# Altium schematic symbol library SamacSys.SchLib: 20 symbols
Pins are listed as number, name and electrical type; pins without a type are passive.

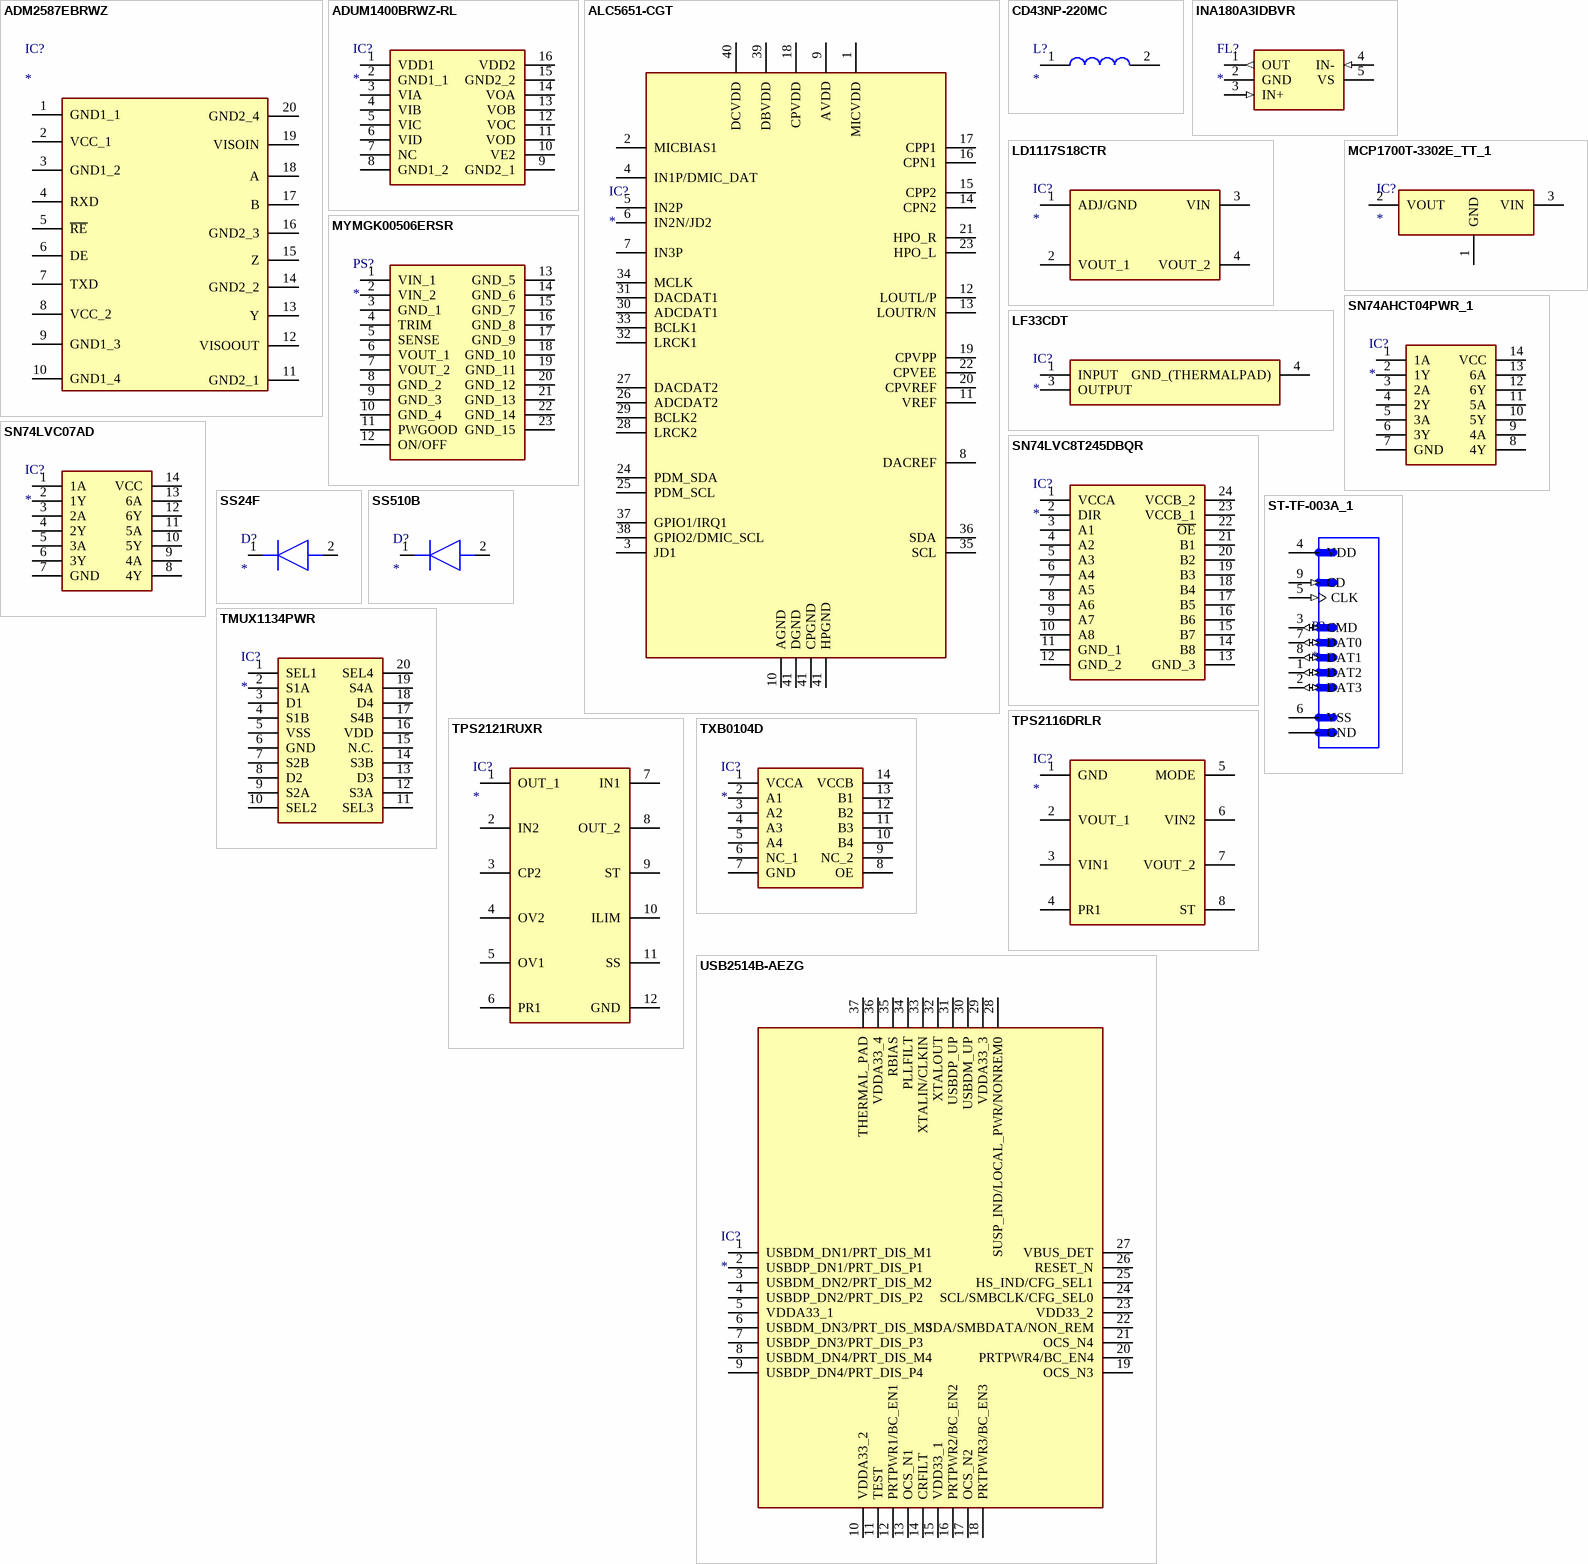
[diagram p0: symbols ADM2587EBRWZ to USB2514B-AEZG]

## ADM2587EBRWZ
designator IC?
Integrated Circuit; Manufacturer_Name: Analog Devices; Manufacturer_Part_Number: ADM2587EBRWZ; Datasheet Link: http://www.analog.com/static/imported-files/data_sheets/ADM2582E_2587E.pdf; Height: 2.65mm; Mouser Part Number: 584-ADM2587EBRWZ; Mouser Price/Stock: https://www.mouser.co.uk/ProductDetail/Analog-Devices/ADM2587EBRWZ?qs=BpaRKvA4VqEzsBsna6VmlA%3D%3D; Arrow Part Number: ADM2587EBRWZ; Arrow Price/Stock: https://www.arrow.com/en/products/adm2587ebrwz/analog-devices?region=nac
footprint SOIC127P1032X265-20N
pins: 1 GND1_1, 2 VCC_1, 3 GND1_2, 4 RXD, 5 ~{RE}, 6 DE, 7 TXD, 8 VCC_2, 9 GND1_3, 10 GND1_4, 11 GND2_1, 12 VISOOUT, 13 Y, 14 GND2_2, 15 Z, 16 GND2_3, 17 B, 18 A, 19 VISOIN, 20 GND2_4

## ADUM1400BRWZ-RL
designator IC?
Integrated Circuit; Manufacturer_Name: Analog Devices; Manufacturer_Part_Number: ADUM1400BRWZ-RL; Datasheet Link: https://www.analog.com/ADUM1400/datasheet; Height: 2.65mm; Mouser Part Number: 584-ADUM1400BRWZ-R; Mouser Price/Stock: https://www.mouser.co.uk/ProductDetail/Analog-Devices/ADUM1400BRWZ-RL?qs=WIvQP4zGanh%2FP3K3z%252BgM%252Bw%3D%3D; Arrow Part Number: ADUM1400BRWZ-RL; Arrow Price/Stock: https://www.arrow.com/en/products/adum1400brwz-rl/analog-devices?region=nac
footprint SOIC127P1032X265-16N
pins: 1 VDD1, 2 GND1_1, 3 VIA, 4 VIB, 5 VIC, 6 VID, 7 NC, 8 GND1_2, 9 GND2_1, 10 VE2, 11 VOD, 12 VOC, 13 VOB, 14 VOA, 15 GND2_2, 16 VDD2

## ALC5651-CGT
designator IC?
Integrated Circuit; Manufacturer_Name: Realtek; Manufacturer_Part_Number: ALC5651-CGT; Datasheet Link: https://datasheet.lcsc.com/szlcsc/2001151131_Realtek-Semicon-ALC5651-CGT_C474323.pdf; Height: 0.9mm
footprint QFN40P500X500X90-41N-D
pins: 1 MICVDD, 2 MICBIAS1, 3 JD1, 4 IN1P/DMIC_DAT, 5 IN2P, 6 IN2N/JD2, 7 IN3P, 8 DACREF, 9 AVDD, 10 AGND, 11 VREF, 12 LOUTL/P, 13 LOUTR/N, 14 CPN2, 15 CPP2, 16 CPN1, 17 CPP1, 18 CPVDD, 19 CPVPP, 20 CPVREF, 21 HPO_R, 22 CPVEE, 23 HPO_L, 24 PDM_SDA, 25 PDM_SCL, 26 ADCDAT2, 27 DACDAT2, 28 LRCK2, 29 BCLK2, 30 ADCDAT1, 31 DACDAT1, 32 LRCK1, 33 BCLK1, 34 MCLK, 35 SCL, 36 SDA, 37 GPIO1/IRQ1, 38 GPIO2/DMIC_SCL, 39 DBVDD, 40 DCVDD, 41 HPGND, 41 CPGND, 41 DGND

## CD43NP-220MC
designator L?
Inductor; Manufacturer_Name: Sumida; Manufacturer_Part_Number: CD43NP-220MC; Datasheet Link: https://products.sumida.com/products/pdf/CD43.pdf; Height: 3.5mm; Mouser Part Number: 851-CD43NP-220MC; Mouser Price/Stock: https://www.mouser.co.uk/ProductDetail/Sumida/CD43NP-220MC?qs=ttApTud31JYLH5yY3TuJPg%3D%3D; Arrow Part Number: CD43NP-220MC; Arrow Price/Stock: https://www.arrow.com/en/products/cd43np-220mc/sumida?region=nac
footprint CD43NP220MC
pins: 1, 2

## INA180A3IDBVR
designator FL?
Filter; Manufacturer_Name: Texas Instruments; Manufacturer_Part_Number: INA180A3IDBVR; Datasheet Link: http://www.ti.com/lit/gpn/INA180; Height: 1.45mm; Mouser Part Number: 595-INA180A3IDBVR; Mouser Price/Stock: https://www.mouser.co.uk/ProductDetail/Texas-Instruments/INA180A3IDBVR?qs=5aG0NVq1C4xT61h4EgbaIA%3D%3D; Arrow Part Number: INA180A3IDBVR; Arrow Price/Stock: https://www.arrow.com/en/products/ina180a3idbvr/texas-instruments?region=nac
footprint SOT95P280X145-5N
pins: 1 OUT (out), 2 GND (power), 3 IN+ (in), 4 IN- (in), 5 VS (power)

## LD1117S18CTR
designator IC?
Integrated Circuit; Manufacturer_Name: STMicroelectronics; Manufacturer_Part_Number: LD1117S18CTR; Datasheet Link: http://www.st.com/st-web-ui/static/active/en/resource/technical/document/datasheet/CD00000544.pdf; Height: 1.8mm; Mouser Part Number: 511-LD1117S18CTR; Mouser Price/Stock: https://www.mouser.co.uk/ProductDetail/STMicroelectronics/LD1117S18CTR?qs=qolwYojYp3Sa3BPkKnJupg%3D%3D; Arrow Part Number: LD1117S18CTR; Arrow Price/Stock: https://www.arrow.com/en/products/ld1117s18ctr/stmicroelectronics?region=nac
footprint SOT230P700X180-4N
pins: 1 ADJ/GND, 2 VOUT_1, 3 VIN, 4 VOUT_2

## LF33CDT
designator IC?
Integrated Circuit; Manufacturer_Name: STMicroelectronics; Manufacturer_Part_Number: LF33CDT; Datasheet Link: http://www.st.com/web/en/resource/technical/document/datasheet/CD00000546.pdf; Height: 2.4mm; Mouser Part Number: 511-LF33CDT; Mouser Price/Stock: https://www.mouser.co.uk/ProductDetail/STMicroelectronics/LF33CDT?qs=tZUCD5p2VWo1sRQNOfAbrg%3D%3D
footprint TO228P972X240-3N
pins: 1 INPUT (power), 3 OUTPUT (power), 4 GND_(THERMALPAD) (power)

## MCP1700T-3302E_TT_1
designator IC?
Integrated Circuit; Manufacturer_Name: Microchip; Manufacturer_Part_Number: MCP1700T-3302E/TT; Datasheet Link: https://datasheet.datasheetarchive.com/originals/distributors/SFDatasheet-4/sf-00090030.pdf; Height: 1.12mm; Mouser Part Number: 579-MCP1700T3302E/TT; Mouser Price/Stock: https://www.mouser.co.uk/ProductDetail/Microchip-Technology/MCP1700T-3302E-TT?qs=fM4xO01eazPmCNDrdHEdaw%3D%3D; Arrow Part Number: MCP1700T-3302E/TT; Arrow Price/Stock: https://www.arrow.com/en/products/mcp1700t-3302ett/microchip-technology?region=europe
footprint SOT95P237X112-3N
pins: 1 GND, 2 VOUT, 3 VIN

## MYMGK00506ERSR
designator PS?
Power Supply; Manufacturer_Name: Murata Electronics; Manufacturer_Part_Number: MYMGK00506ERSR; Datasheet Link: https://www.murata.com/products/productdata/8821423702046/MYMGKXXX06.pdf?1699932616000; Height: 5mm; Mouser Part Number: 580-MYMGK00506ERSR; Mouser Price/Stock: https://www.mouser.co.uk/ProductDetail/Murata-Electronics/MYMGK00506ERSR?qs=BZHi70qTbyRpHI4B%252B7Xs8A%3D%3D; Arrow Part Number: MYMGK00506ERSR; Arrow Price/Stock: https://www.arrow.com/en/products/mymgk00506ersr/murata-power-solutions
footprint MYMGK00506ERSR
pins: 1 VIN_1, 2 VIN_2, 3 GND_1, 4 TRIM, 5 SENSE, 6 VOUT_1, 7 VOUT_2, 8 GND_2, 9 GND_3, 10 GND_4, 11 PWGOOD, 12 ON/OFF, 13 GND_5, 14 GND_6, 15 GND_7, 16 GND_8, 17 GND_9, 18 GND_10, 19 GND_11, 20 GND_12, 21 GND_13, 22 GND_14, 23 GND_15

## SN74AHCT04PWR_1
designator IC?
Integrated Circuit; Manufacturer_Name: Texas Instruments; Manufacturer_Part_Number: SN74AHCT04PWR; Datasheet Link: http://www.ti.com/lit/gpn/sn74ahct04; Height: 1.2mm; Mouser Part Number: 595-SN74AHCT04PWR; Mouser Price/Stock: https://www.mouser.co.uk/ProductDetail/Texas-Instruments/SN74AHCT04PWR?qs=D5pVkbrsqqJ8K2Qvm77JIw%3D%3D; Arrow Part Number: SN74AHCT04PWR; Arrow Price/Stock: https://www.arrow.com/en/products/sn74ahct04pwr/texas-instruments?region=nac
footprint SOP65P640X120-14N
pins: 1 1A, 2 1Y, 3 2A, 4 2Y, 5 3A, 6 3Y, 7 GND, 8 4Y, 9 4A, 10 5Y, 11 5A, 12 6Y, 13 6A, 14 VCC

## SN74LVC07AD
designator IC?
Integrated Circuit; Manufacturer_Name: Texas Instruments; Manufacturer_Part_Number: SN74LVC07AD; Datasheet Link: http://www.ti.com/lit/ds/symlink/sn74lvc07a.pdf; Height: 1.75mm; Mouser Part Number: 595-SN74LVC07AD; Mouser Price/Stock: https://www.mouser.co.uk/ProductDetail/Texas-Instruments/SN74LVC07AD?qs=8yeEWhuAOtMkbU1H3MsIVg%3D%3D; Arrow Part Number: SN74LVC07AD; Arrow Price/Stock: https://www.arrow.com/en/products/sn74lvc07ad/texas-instruments?region=nac
footprint SOIC127P600X175-14N
pins: 1 1A, 2 1Y, 3 2A, 4 2Y, 5 3A, 6 3Y, 7 GND, 8 4Y, 9 4A, 10 5Y, 11 5A, 12 6Y, 13 6A, 14 VCC

## SN74LVC8T245DBQR
designator IC?
Integrated Circuit; Manufacturer_Name: Texas Instruments; Manufacturer_Part_Number: SN74LVC8T245DBQR; Datasheet Link: http://www.ti.com/lit/gpn/sn74lvc8t245; Height: 1.75mm; Mouser Part Number: 595-SN74LVC8T245DBQR; Mouser Price/Stock: https://www.mouser.co.uk/ProductDetail/Texas-Instruments/SN74LVC8T245DBQR?qs=dT9u2OTAaVXsrjZUGB3%252Bbw%3D%3D; Arrow Part Number: SN74LVC8T245DBQR; Arrow Price/Stock: https://www.arrow.com/en/products/sn74lvc8t245dbqr/texas-instruments?region=nac
footprint SOP64P600X175-24N
pins: 1 VCCA, 2 DIR, 3 A1, 4 A2, 5 A3, 6 A4, 7 A5, 8 A6, 9 A7, 10 A8, 11 GND_1, 12 GND_2, 13 GND_3, 14 B8, 15 B7, 16 B6, 17 B5, 18 B4, 19 B3, 20 B2, 21 B1, 22 ~{OE}, 23 VCCB_1, 24 VCCB_2

## SS24F
designator D?
Diode; Manufacturer_Name: Shikues; Manufacturer_Part_Number: SS24F; Datasheet Link: https://eastronic88.en.made-in-china.com/print/FZStilOdyghn/China-Schottky-Barrier-Rectifier-Diode-SS24F-2-0A-40V-SMAF.html; Height: 1.1mm
footprint SODFL4626X110N
pins: 1 K, 2 A

## SS510B
designator D?
Diode; Manufacturer_Name: HY Electronic; Manufacturer_Part_Number: SS510B; Height: 2.44mm
footprint DIOM5336X244N
pins: 1 K, 2 A

## ST-TF-003A_1
designator P?
Micro SD Card Socket; MP: ST-TF-003A; Price: None; Availability: Unavailable; Value: *; Package: None
footprint SUNTECH_ST-TF-003A
pins: 1 DAT2 (io), 2 DAT3 (io), 3 CMD (io), 4 VDD (power), 5 CLK (in), 6 VSS, 7 DAT0 (io), 8 DAT1 (io), 9 CD (in), G1 GND

## TMUX1134PWR
designator IC?
Integrated Circuit; Manufacturer_Name: Texas Instruments; Manufacturer_Part_Number: TMUX1134PWR; Datasheet Link: https://www.ti.com/lit/gpn/TMUX1134; Height: 1.2mm; Mouser Part Number: 595-TMUX1134PWR; Mouser Price/Stock: https://www.mouser.co.uk/ProductDetail/Texas-Instruments/TMUX1134PWR?qs=%252B6g0mu59x7L8VGQncKsYmQ%3D%3D; Arrow Part Number: TMUX1134PWR; Arrow Price/Stock: null?region=nac
footprint SOP65P640X120-20N
pins: 1 SEL1, 2 S1A, 3 D1, 4 S1B, 5 VSS, 6 GND, 7 S2B, 8 D2, 9 S2A, 10 SEL2, 11 SEL3, 12 S3A, 13 D3, 14 S3B, 15 N.C., 16 VDD, 17 S4B, 18 D4, 19 S4A, 20 SEL4

## TPS2116DRLR
designator IC?
Integrated Circuit; Manufacturer_Name: Texas Instruments; Manufacturer_Part_Number: TPS2116DRLR; Datasheet Link: https://www.ti.com/lit/gpn/tps2116; Height: 0.6mm; Mouser Part Number: 595-TPS2116DRLR; Mouser Price/Stock: https://www.mouser.co.uk/ProductDetail/Texas-Instruments/TPS2116DRLR?qs=aP1CjGhiNiGo3XAyXcVPaQ%3D%3D; Arrow Part Number: TPS2116DRLR; Arrow Price/Stock: https://www.arrow.com/en/products/tps2116drlr/texas-instruments?region=nac
footprint SOTFL50P160X60-8N
pins: 1 GND, 2 VOUT_1, 3 VIN1, 4 PR1, 5 MODE, 6 VIN2, 7 VOUT_2, 8 ST

## TPS2121RUXR
designator IC?
Integrated Circuit; Manufacturer_Name: Texas Instruments; Manufacturer_Part_Number: TPS2121RUXR; Datasheet Link: https://www.ti.com/lit/gpn/TPS2121; Height: 1mm; Mouser Part Number: 595-TPS2121RUXR; Mouser Price/Stock: https://www.mouser.co.uk/ProductDetail/Texas-Instruments/TPS2121RUXR?qs=qSfuJ%252Bfl%2Fd7dCYiVnUfngQ%3D%3D; Arrow Part Number: TPS2121RUXR; Arrow Price/Stock: null?utm_currency=USD&region=nac
footprint TPS2121RUXR
pins: 1 OUT_1, 2 IN2, 3 CP2, 4 OV2, 5 OV1, 6 PR1, 7 IN1, 8 OUT_2, 9 ST, 10 ILIM, 11 SS, 12 GND

## TXB0104D
designator IC?
Integrated Circuit; Manufacturer_Name: Texas Instruments; Manufacturer_Part_Number: TXB0104D; Datasheet Link: http://www.ti.com/lit/gpn/txb0104; Height: 1.75mm; Mouser Part Number: 595-TXB0104D; Mouser Price/Stock: https://www.mouser.co.uk/ProductDetail/Texas-Instruments/TXB0104D?qs=oFXvjAmG9Eh0u9dpGkn5zg%3D%3D; Arrow Part Number: TXB0104D; Arrow Price/Stock: https://www.arrow.com/en/products/txb0104d/texas-instruments?region=nac
footprint SOIC127P600X175-14N
pins: 1 VCCA, 2 A1, 3 A2, 4 A3, 5 A4, 6 NC_1, 7 GND, 8 OE, 9 NC_2, 10 B4, 11 B3, 12 B2, 13 B1, 14 VCCB

## USB2514B-AEZG
designator IC?
Integrated Circuit; Manufacturer_Name: Microchip; Manufacturer_Part_Number: USB2514B-AEZG; Datasheet Link: http://ww1.microchip.com/downloads/en/DeviceDoc/00001692C.pdf; Height: 1mm; Mouser Part Number: 886-USB2514B-AEZG; Mouser Price/Stock: https://www.mouser.co.uk/ProductDetail/Microchip-Technology/USB2514B-AEZG?qs=ydWXD%252B8LvLCxuNqQPTEcVA%3D%3D; Arrow Part Number: USB2514B-AEZG; Arrow Price/Stock: https://www.arrow.com/en/products/usb2514b-aezg/microchip-technology?region=nac
footprint QFN50P600X600X100-37N-D
pins: 1 USBDM_DN1/PRT_DIS_M1, 2 USBDP_DN1/PRT_DIS_P1, 3 USBDM_DN2/PRT_DIS_M2, 4 USBDP_DN2/PRT_DIS_P2, 5 VDDA33_1, 6 USBDM_DN3/PRT_DIS_M3, 7 USBDP_DN3/PRT_DIS_P3, 8 USBDM_DN4/PRT_DIS_M4, 9 USBDP_DN4/PRT_DIS_P4, 10 VDDA33_2, 11 TEST, 12 PRTPWR1/BC_EN1, 13 OCS_N1, 14 CRFILT, 15 VDD33_1, 16 PRTPWR2/BC_EN2, 17 OCS_N2, 18 PRTPWR3/BC_EN3, 19 OCS_N3, 20 PRTPWR4/BC_EN4, 21 OCS_N4, 22 SDA/SMBDATA/NON_REM, 23 VDD33_2, 24 SCL/SMBCLK/CFG_SEL0, 25 HS_IND/CFG_SEL1, 26 RESET_N, 27 VBUS_DET, 28 SUSP_IND/LOCAL_PWR/NONREM0, 29 VDDA33_3, 30 USBDM_UP, 31 USBDP_UP, 32 XTALOUT, 33 XTALIN/CLKIN, 34 PLLFILT, 35 RBIAS, 36 VDDA33_4, 37 THERMAL_PAD